# Altium schematic symbol library PiVO.SchLib: 2 symbols
Pins are listed as number, name and electrical type; pins without a type are passive.

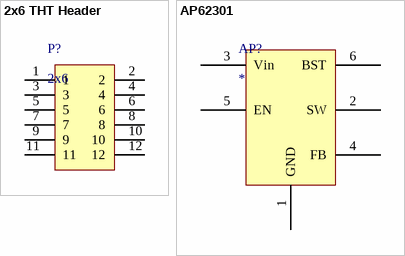
[diagram p0: symbols 2x6 THT Header to AP62301]

## 2x6 THT Header
designator P?, comment 2x6
footprint 1.27mm headet tht
pins: 1, 2, 3, 4, 5, 6, 7, 8, 9, 10, 11, 12

## AP62301
designator AP?
footprint SOT95P280X100-6L (SOT23, 6-Leads, Body 2.90x2.80mm, Pitch 0.95mm, IPC High Density)
pins: 1 GND, 2 SW, 3 Vin, 4 FB, 5 EN, 6 BST